# EAGLE library part EL7154CN (library Intersil_By_element14_Batch_1)
High Speed, Monolithic Pin Driver
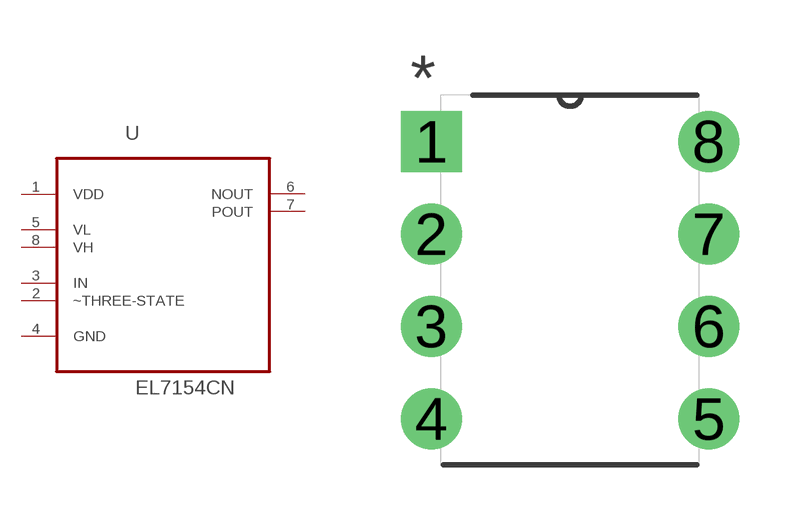
[diagram p64: symbol with the pads of DIP254P762X533-8; footprint DIP254P762X533-8]

Designator prefix U

## EL7154CN (MPN: EL7154CN; OC_FARNELL: -; OC_NEWARK: 62H5078; PACKAGE: PDIP-8; SUPPLIER: INTERSIL)  [DIP254P762X533-8]
1  VDD  pwr
2  ~THREE-STATE  in
3  IN  in
4  GND  pas
5  VL  pwr
6  NOUT  out
7  POUT  out
8  VH  pwr

## Footprint DIP254P762X533-8 (pad centres in mm)
drill 1.118 square: 1 -7.62,7.62
drill 1.118: 2 -7.62,5.08; 3 -7.62,2.54; 4 -7.62,0; 5 0,0; 6 0,2.54; 7 0,5.08; 8 0,7.62